# EAGLE library part MS500_SS2E (library eWBM)
secure Sensor-to-Ethernet Module "MS500-sS2E" with MS500 MCU & W5500 (WIZnet) TCP/IP Ethernet Chip | Idea & Schematic by JoW, PointBlank, Steen Harbach AG | PCB Layout and Production by eWBM
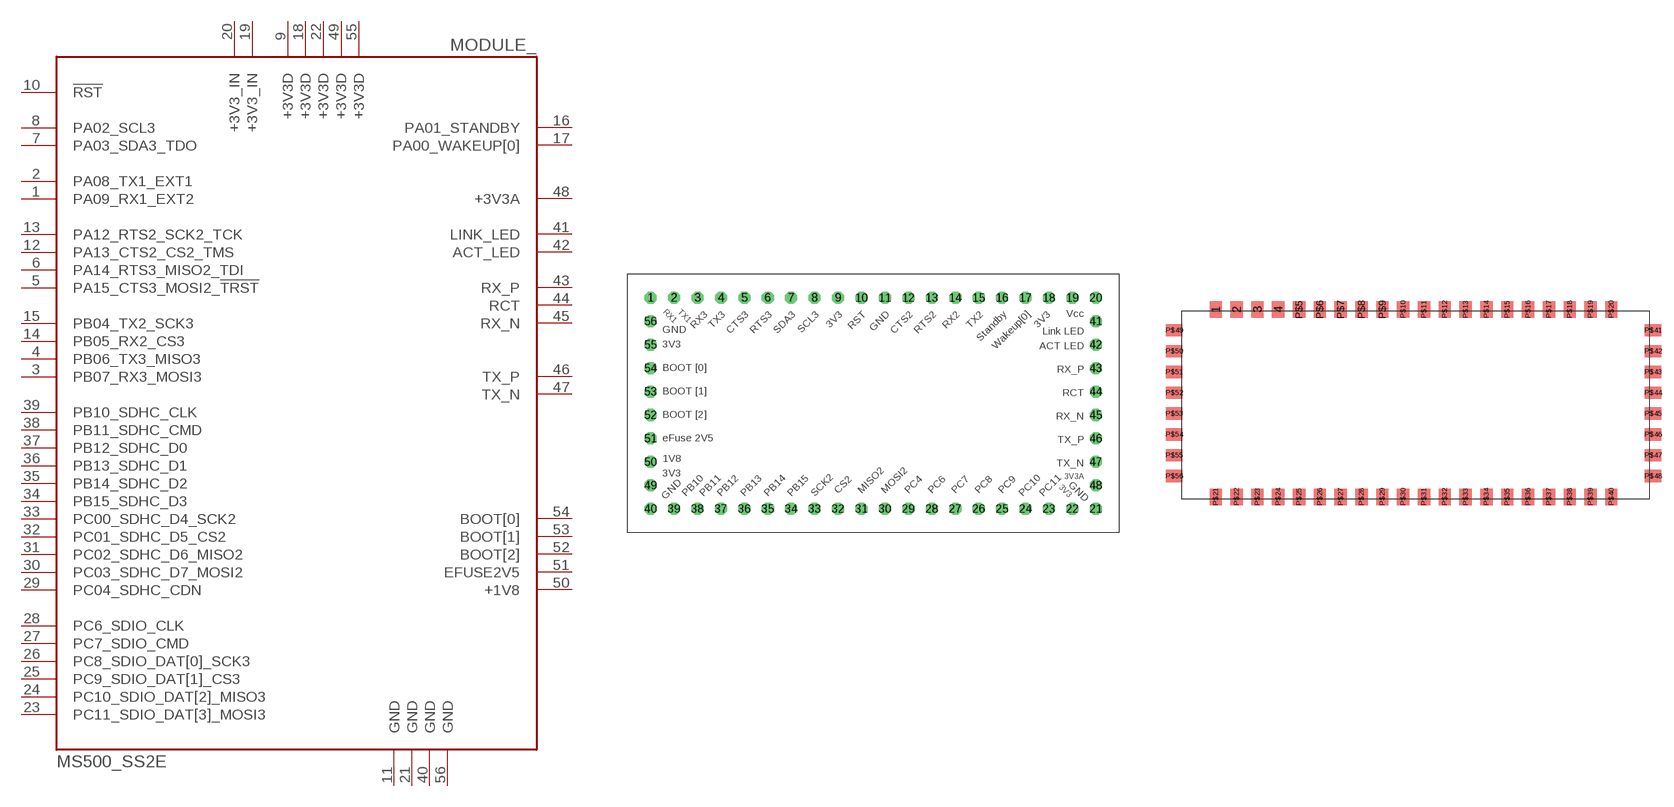
[diagram p1: symbol with the pads of U-SHAPE_2X20+2X8; footprints U-SHAPE_2X20+2X8, U-SHAPE_2X20+2X8_SMD]

Designator prefix MODULE_

## MS500_SS2ETHT  [U-SHAPE_2X20+2X8]
1  PA09_RX1_EXT2
2  PA08_TX1_EXT1
3  PB07_RX3_MOSI3
4  PB06_TX3_MISO3
5  PA15_CTS3_MOSI2_!TRST
6  PA14_RTS3_MISO2_TDI
7  PA03_SDA3_TDO
8  PA02_SCL3
9  +3V3D
10  !RST
11  GND
12  PA13_CTS2_CS2_TMS
13  PA12_RTS2_SCK2_TCK
14  PB05_RX2_CS3
15  PB04_TX2_SCK3
16  PA01_STANDBY
17  PA00_WAKEUP[0]
18  +3V3D
19  +3V3_IN
20  +3V3_IN
21  GND
22  +3V3D
23  PC11_SDIO_DAT[3]_MOSI3
24  PC10_SDIO_DAT[2]_MISO3
25  PC9_SDIO_DAT[1]_CS3
26  PC8_SDIO_DAT[0]_SCK3
27  PC7_SDIO_CMD
28  PC6_SDIO_CLK
29  PC04_SDHC_CDN
30  PC03_SDHC_D7_MOSI2
31  PC02_SDHC_D6_MISO2
32  PC01_SDHC_D5_CS2
33  PC00_SDHC_D4_SCK2
34  PB15_SDHC_D3
35  PB14_SDHC_D2
36  PB13_SDHC_D1
37  PB12_SDHC_D0
38  PB11_SDHC_CMD
39  PB10_SDHC_CLK
40  GND
41  LINK_LED
42  ACT_LED
43  RX_P
44  RCT
45  RX_N
46  TX_P
47  TX_N
48  +3V3A
49  +3V3D
50  +1V8
51  EFUSE2V5
52  BOOT[2]
53  BOOT[1]
54  BOOT[0]
55  +3V3D
56  GND

## MS500_SS2ESMD  [U-SHAPE_2X20+2X8_SMD]
1  PA08_TX1_EXT1

## Footprint U-SHAPE_2X20+2X8 (pad centres in mm)
secure Sensor-to-Ethernet Module with MS500 MCU & W5500 TCP/IP Ethernet Chip | Idea & Schematic by JoW, PointBlank, Steen Harbach AG | PCB Layout and Production by eWBM
drill 0.8 octagon: 1 -22.86,12.7; 2 -20.32,12.7; 3 -17.78,12.7; 4 -15.24,12.7; 5 -12.7,12.7; 6 -10.16,12.7; 7 -7.62,12.7; 8 -5.08,12.7; 9 -2.54,12.7; 10 0,12.7; 11 2.54,12.7; 12 5.08,12.7; 13 7.62,12.7; 14 10.16,12.7; 15 12.7,12.7; 16 15.24,12.7; 17 17.78,12.7; 18 20.32,12.7; 19 22.86,12.7; 20 25.4,12.7; 21 25.4,-10.16; 22 22.86,-10.16; 23 20.32,-10.16; 24 17.78,-10.16; 25 15.24,-10.16; 26 12.7,-10.16; 27 10.16,-10.16; 28 7.62,-10.16; 29 5.08,-10.16; 30 2.54,-10.16; 31 0,-10.16; 32 -2.54,-10.16; 33 -5.08,-10.16; 34 -7.62,-10.16; 35 -10.16,-10.16; 36 -12.7,-10.16; 37 -15.24,-10.16; 38 -17.78,-10.16; 39 -20.32,-10.16; 40 -22.86,-10.16; 41 25.4,10.16; 42 25.4,7.62; 43 25.4,5.08; 44 25.4,2.54; 45 25.4,0; 46 25.4,-2.54; 47 25.4,-5.08; 48 25.4,-7.62; 49 -22.86,-7.62; 50 -22.86,-5.08; 51 -22.86,-2.54; 52 -22.86,0; 53 -22.86,2.54; 54 -22.86,5.08; 55 -22.86,7.62; 56 -22.86,10.16

## Footprint U-SHAPE_2X20+2X8_SMD (pad centres in mm)
smd 1.5 x 2: 1 -22.86,10.16; 2 -20.32,10.16; 3 -17.78,10.16; 4 -15.24,10.16; P$5 -12.7,10.16; P$6 -10.16,10.16; P$7 -7.62,10.16; P$8 -5.08,10.16; P$9 -2.54,10.16; P$10 0,10.16; P$11 2.54,10.16; P$12 5.08,10.16; P$13 7.62,10.16; P$14 10.16,10.16; P$15 12.7,10.16; P$16 15.24,10.16; P$17 17.78,10.16; P$18 20.32,10.16; P$19 22.86,10.16; P$20 25.4,10.16; P$21 -22.86,-12.7; P$22 -20.32,-12.7; P$23 -17.78,-12.7; P$24 -15.24,-12.7; P$25 -12.7,-12.7; P$26 -10.16,-12.7; P$27 -7.62,-12.7; P$28 -5.08,-12.7; P$29 -2.54,-12.7; P$30 0,-12.7; P$31 2.54,-12.7; P$32 5.08,-12.7; P$33 7.62,-12.7; P$34 10.16,-12.7; P$35 12.7,-12.7; P$36 15.24,-12.7; P$37 17.78,-12.7; P$38 20.32,-12.7; P$39 22.86,-12.7; P$40 25.4,-12.7
smd 2 x 1.5: P$41 30.48,7.62; P$42 30.48,5.08; P$43 30.48,2.54; P$44 30.48,0; P$45 30.48,-2.54; P$46 30.48,-5.08; P$47 30.48,-7.62; P$48 30.48,-10.16; P$49 -27.94,7.62; P$50 -27.94,5.08; P$51 -27.94,2.54; P$52 -27.94,0; P$53 -27.94,-2.54; P$54 -27.94,-5.08; P$55 -27.94,-7.62; P$56 -27.94,-10.16